# Altium footprint library PA_control_board.PcbLib: 31 footprints (part 1 of 2)
Each footprint in its own frame and in the unit in brackets; x right, y up, seen from the top. Pads: shape width x height; smd on the part's side, far side on the other; paste and mask are expansions set on the pad; w line width, h text height; cw(c..) or ccw(c..) is an arc to the next point about the centre after c.
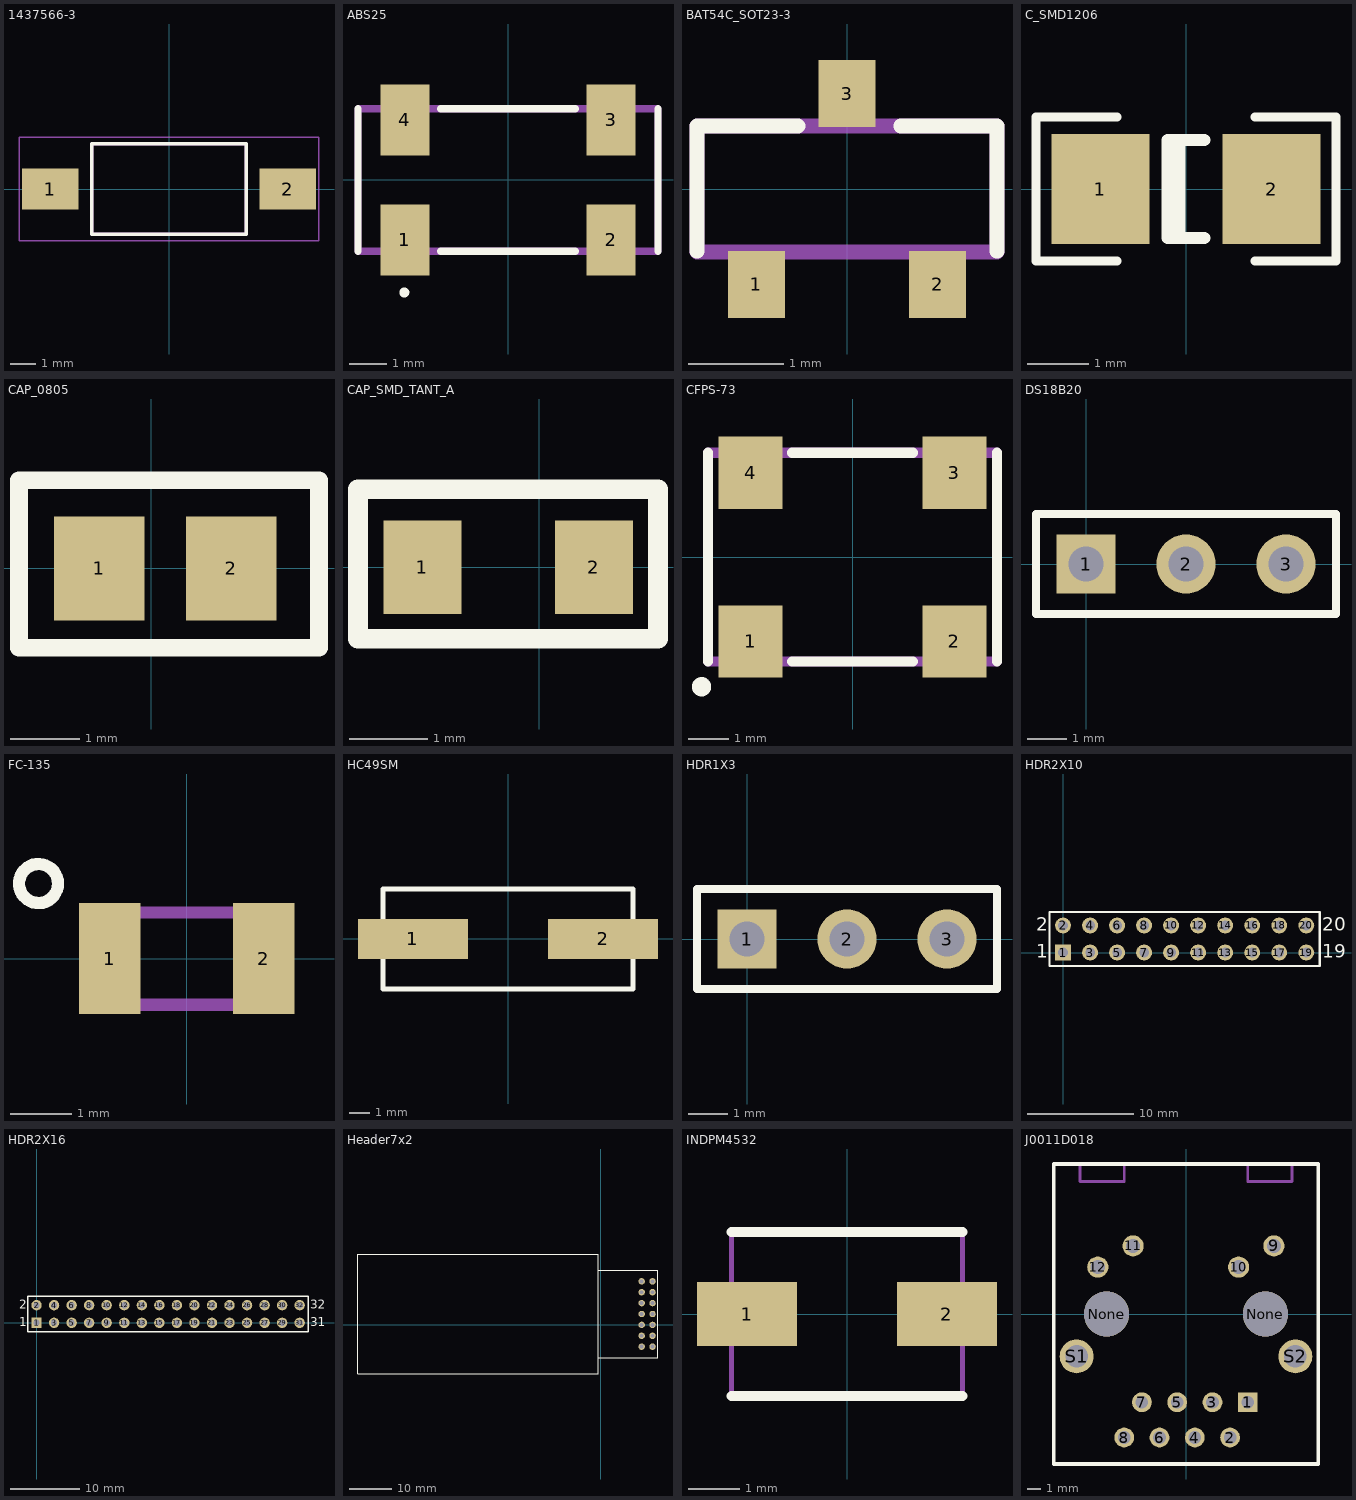
[diagram p0: the footprints below, top view; thin cyan lines are the x and y axes]

## 1437566-3 [mm]
pads (2):
  rect 2.18x1.6 smd: 1(-4.6,0) 2(4.6,0)
Top Overlay:
  lines w0.127: -3,-1.75 -3,1.75 3,1.75 3,-1.75 -3,-1.75
Mechanical 1:
  lines w0.127: -3,-1.75 -3,1.75 3,1.75 3,-1.75 -3,-1.75
Mechanical 15:
  lines w0.05: -5.815,-2 -5.815,2 5.815,2 5.815,-2 -5.815,-2
3D body "1437566-3.stp": height 4.87, standoff 0, extent -5.54,-1.75 5.54,1.75

## ABS25 [mm]
pads (4):
  rect 1.3x1.9 smd: 1(-2.75,-1.6) 2(2.75,-1.6) 3(2.75,1.6) 4(-2.75,1.6)
Top Overlay:
  circle w0.2: c-2.766,-3.001 r0.033
  lines w0.2: -4,-1.9 -4,1.9 ; -1.8,-1.9 1.8,-1.9 ; -1.8,1.9 1.8,1.9 ; 4,-1.9 4,1.9
Mechanical 15:
  lines w0.2: -4,-1.9 4,-1.9 4,1.9 -4,1.9 -4,-1.9

## BAT54C_SOT23-3 [mm]
pads (3):
  rect 0.6x0.7 smd: 1(-0.95,-1) 2(0.95,-1) 3(0,1)
Top Overlay:
  lines w0.152: -1.572,-0.652 -1.572,0.66 -0.514,0.66 ; 0.564,0.66 1.572,0.66 1.572,-0.652
Mechanical 15:
  region: -0.229,1.295 0.229,1.295 0.229,0.711 -0.229,0.711
  region: 0.711,-0.711 1.168,-0.711 1.168,-1.296 0.711,-1.296
  region: -1.17,-0.711 -0.711,-0.711 -0.711,-1.297 -1.17,-1.297
  lines w0.152: -1.572,-0.66 1.572,-0.66 1.572,0.66 -1.572,0.66 -1.572,-0.66
3D body "BAT54C,215.stp": height 1.1, standoff 0, extent -1.45,-1.175 1.45,1.125

## C_SMD1206 [mm]
pads (2):
  rect 1.6x1.8 smd: 1(-1.4,0) 2(1.4,0)
Top Overlay:
  lines w0.15: -1.125,-1.175 -2.45,-1.175 -2.45,1.175 -1.125,1.175 ; 1.125,-1.175 2.45,-1.175 2.45,1.175 1.125,1.175
  lines w0.2: -0.11,-0.8 -0.11,0.8 ; 0.3,-0.8 -0.3,-0.8 -0.3,0.8 0.3,0.8
3D body "CAPC-1206-T1.0-BN.stp": height 1, standoff 0, extent -1.675,-0.875 1.675,0.875

## CAP_0805 [mm]
pads (2):
  rect 1.3x1.5 smd: 1(-0.75,0) 2(1.15,0)
Top Overlay:
  lines w0.254: -1.905,-1.143 -1.905,1.27 2.413,1.27 2.413,-1.143 -1.905,-1.143

## CAP_SMD_TANT_A [mm]
pads (2):
  rect 1x1.2 smd mask+0: 1(-1.5,0) 2(0.7,0)
Top Overlay:
  lines w0.254: -2.328,-0.921 -2.328,1 1.524,1 1.524,-0.921 -2.328,-0.921

## CFPS-73 [mm]
pads (4):
  rect 1.6x1.8 smd: 1(-2.54,-2.1) 2(2.54,-2.1) 3(2.54,2.1) 4(-2.54,2.1)
Top Overlay:
  circle w0.254: c-3.761,-3.23 r0.114
  lines w0.254: -3.6,-2.6 -3.6,2.6 ; -1.5,-2.6 1.5,-2.6 ; -1.5,2.6 1.5,2.6 ; 3.6,-2.6 3.6,2.6
Mechanical 15:
  lines w0.254: -3.6,-2.6 -3.6,2.6 3.6,2.6 3.6,-2.6 -3.6,-2.6
3D body "User Library-CFPS-73.STEP": height 1.52, standoff 0, extent -3.5,-2.51 3.5,2.51

## DS18B20 [mm] "Connector; Header; 3 Position"
pads (3):
  rect 1.5x1.5 hole 0.9: 1(0,0)
  round 1.5 hole 0.9: 2(2.54,0) 3(5.08,0)
Top Overlay:
  lines w0.2: -1.27,-1.27 -1.27,1.27 6.35,1.27 6.35,-1.27 -1.27,-1.27

## FC-135 [mm]
pads (2):
  rect 1x1.8 smd: 1(-1.25,0) 2(1.25,0)
Top Overlay:
  circle w0.2: c-2.409,1.22 r0.317
Mechanical 15:
  lines w0.2: -1.6,-0.75 1.6,-0.75 1.6,0.75 -1.6,0.75 -1.6,-0.75
3D body "User Library-Crystal FC-135.STEP": height 0.8, standoff 0, extent -1.6,-0.75 1.6,0.75

## HC49SM [mm]
pads (2):
  rect 5.5x2 smd: 1(-4.75,0) 2(4.75,0)
Top Overlay:
  lines w0.254: -6.25,-2.5 6.25,-2.5 6.25,2.5 -6.25,2.5 -6.25,-2.5
3D body "User Library-HC-49SM-1.STEP": height 3.8, standoff 0, extent -6.2,-2.35 6.2,2.35

## HDR1X3 [mm] "Connector; Header; 3 Position"
pads (3):
  rect 1.5x1.5 hole 0.9: 1(0,0)
  round 1.5 hole 0.9: 2(2.54,0) 3(5.08,0)
Top Overlay:
  lines w0.2: -1.27,-1.27 -1.27,1.27 6.35,1.27 6.35,-1.27 -1.27,-1.27

## HDR2X10 [mm] "Connector; Header; 10x2 Position"
pads (20):
  rect 1.5x1.5 hole 0.9: 1(0,0)
  round 1.5 hole 0.9: 2(0,2.54) 3(2.54,0) 4(2.54,2.54) 5(5.08,0) 6(5.08,2.54) 7(7.62,0) 8(7.62,2.54) 9(10.16,0) 10(10.16,2.54) 11(12.7,0) 12(12.7,2.54) 13(15.24,0) 14(15.24,2.54) 15(17.78,0) 16(17.78,2.54) 17(20.32,0) 18(20.32,2.54) 19(22.86,0) 20(22.86,2.54)
Top Overlay:
  lines w0.2: -1.27,-1.27 0.635,-1.27 24.13,-1.27 24.13,3.81 0.635,3.81 -1.27,3.81 -1.27,-1.27
  text "20" at 24.384,2.032 h1.27
  text "19" at 24.384,-0.508 h1.27
  text "1" at -2.54,-0.508 h1.27
  text "2" at -2.54,2.032 h1.27

## HDR2X16 [mm] "Connector; Header; 16x2 Position"
pads (32):
  rect 1.5x1.5 hole 0.9: 1(0,0)
  round 1.5 hole 0.9: 2(0,2.54) 3(2.54,0) 4(2.54,2.54) 5(5.08,0) 6(5.08,2.54) 7(7.62,0) 8(7.62,2.54) 9(10.16,0) 10(10.16,2.54) 11(12.7,0) 12(12.7,2.54) 13(15.24,0) 14(15.24,2.54) 15(17.78,0) 16(17.78,2.54) 17(20.32,0) 18(20.32,2.54) 19(22.86,0) 20(22.86,2.54) 21(25.4,0) 22(25.4,2.54) 23(27.94,0) 24(27.94,2.54) 25(30.48,0) 26(30.48,2.54) 27(33.02,0) 28(33.02,2.54) 29(35.56,0) 30(35.56,2.54) 31(38.1,0) 32(38.1,2.54)
Top Overlay:
  lines w0.2: -1.27,-1.27 39.37,-1.27 39.37,3.81 -1.27,3.81 -1.27,-1.27
  text "2" at -2.54,2.032 h1.27
  text "1" at -2.54,-0.508 h1.27
  text "31" at 39.624,-0.508 h1.27
  text "32" at 39.624,2.032 h1.27

## Header7x2 [mm]
pads (14):
  round 1.5 hole 0.9: 1(9.525,-5.08) 2(9.525,-2.54) 3(9.525,0) 4(9.525,2.54) 5(9.525,5.08) 6(9.525,7.62) 7(9.525,10.16) 8(12.065,-5.08) 9(12.065,-2.54) 10(12.065,0) 11(12.065,2.54) 12(12.065,5.08) 13(12.065,7.62) 14(12.065,10.16)
Top Overlay:
  lines w0.254: -0.635,-7.62 -0.635,-11.43 -56.642,-11.43 -56.642,16.51 -0.635,16.51 -0.635,12.7 ; -0.635,-7.62 -0.635,12.7 ; -0.635,-7.62 12.065,-7.62 13.335,-7.62 13.335,12.7 12.065,12.7 -0.635,12.7

## INDPM4532 [mm]
pads (2):
  rect 1.95x1.25 smd: 1(-1.95,0) 2(1.95,0)
Top Overlay:
  lines w0.2: -2.25,-1.6 2.25,-1.6 ; -2.25,1.6 2.25,1.6
Mechanical 15:
  lines w0.1: -2.25,-1.6 -2.25,1.6 2.25,1.6 2.25,-1.6 -2.25,-1.6
3D body "CM453232-471KL.stp": height 3.4, standoff 0, extent -2.25,-1.6 2.25,1.6

## J0011D018 [mil]
pads (16):
  rect 56x56 hole 36: 1(175,-250)
  round 56 hole 36: 2(125,-350) 3(75,-250) 4(25,-350) 5(-25,-250) 6(-75,-350) 7(-125,-250) 8(-175,-350)
  round 60 hole 40: 9(249,193) 10(149,133) 11(-150,193) 12(-250,133)
  round 128 hole 128 unplated: None(-225,0) None(225,0)
  round 96 hole 64: S1(-310,-120) S2(310,-120)
Top Overlay:
  lines w10: -375,-425 375,-425 375,425 -375,425 -375,-425
Mechanical 1:
  lines w8: -300,425 -300,375 -175,375 -175,425 ; 175,425 175,375 300,375 300,425
3D body "Abracon ARJC02-111008B.STEP": height 632.68, standoff -145.67, extent -404.41,-405.55 409.45,425.2